# Altium schematic symbol library WCAP-CSGP_0402_X7R.SchLib: 8 symbols
Pins are listed as number, name and electrical type; pins without a type are passive.

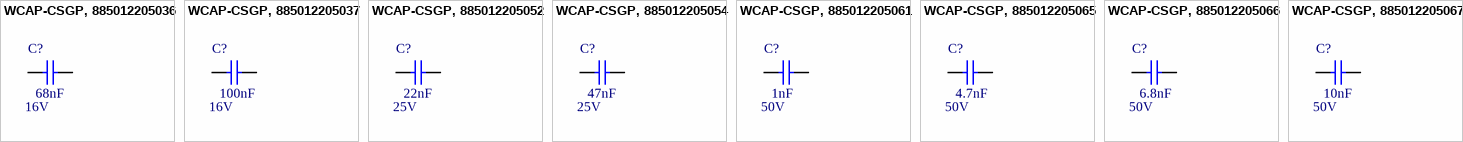
[diagram p0: symbols WCAP-CSGP, 885012205036 to WCAP-CSGP, 885012205067]

## WCAP-CSGP, 885012205036
designator C?, comment 68nF  RatedVoltage: 16V
CAP CER 68nF 16V X7R 0402; Manufacturer: Wurth Elektronik; Manufacturer Part Number: 885012205036; PublishedDate: Aug 2016; ComponentLink1Description: Manufacturer; ComponentLink1URL: http://www.we-online.de; ComponentLink2Description: Datasheet; ComponentLink2URL: http://katalog.we-online.com/pbs/datasheet/885012205036.pdf; Value: 68nF; Size: 0402; CeramicType: X7R
footprint WCAP-CSGP_0402, 1x0.5x0.5
pins: 1, 2

## WCAP-CSGP, 885012205037
designator C?, comment 100nF  RatedVoltage: 16V
CAP CER 100nF 16V X7R 0402; Manufacturer: Wurth Elektronik; Manufacturer Part Number: 885012205037; PublishedDate: Aug 2016; ComponentLink1Description: Manufacturer; ComponentLink1URL: http://www.we-online.de; ComponentLink2Description: Datasheet; ComponentLink2URL: http://katalog.we-online.com/pbs/datasheet/885012205037.pdf; Value: 100nF; Size: 0402; CeramicType: X7R
footprint WCAP-CSGP_0402, 1x0.5x0.5
pins: 1, 2

## WCAP-CSGP, 885012205052
designator C?, comment 22nF  RatedVoltage: 25V
CAP CER 22nF 25V X7R 0402; Manufacturer: Wurth Elektronik; Manufacturer Part Number: 885012205052; PublishedDate: Aug 2016; ComponentLink1Description: Manufacturer; ComponentLink1URL: http://www.we-online.de; ComponentLink2Description: Datasheet; ComponentLink2URL: http://katalog.we-online.com/pbs/datasheet/885012205052.pdf; Value: 22nF; Size: 0402; CeramicType: X7R
footprint WCAP-CSGP_0402, 1x0.5x0.5
pins: 1, 2

## WCAP-CSGP, 885012205054
designator C?, comment 47nF  RatedVoltage: 25V
CAP CER 47nF 25V X7R 0402; Manufacturer: Wurth Elektronik; Manufacturer Part Number: 885012205054; PublishedDate: Aug 2016; ComponentLink1Description: Manufacturer; ComponentLink1URL: http://www.we-online.de; ComponentLink2Description: Datasheet; ComponentLink2URL: http://katalog.we-online.com/pbs/datasheet/885012205054.pdf; Value: 47nF; Size: 0402; CeramicType: X7R
footprint WCAP-CSGP_0402, 1x0.5x0.5
pins: 1, 2

## WCAP-CSGP, 885012205061
designator C?, comment 1nF  RatedVoltage: 50V
CAP CER 1nF 50V X7R 0402; Manufacturer: Wurth Elektronik; Manufacturer Part Number: 885012205061; PublishedDate: Aug 2016; ComponentLink1Description: Manufacturer; ComponentLink1URL: http://www.we-online.de; ComponentLink2Description: Datasheet; ComponentLink2URL: http://katalog.we-online.com/pbs/datasheet/885012205061.pdf; Value: 1nF; Size: 0402; CeramicType: X7R
footprint WCAP-CSGP_0402, 1x0.5x0.5
pins: 1, 2

## WCAP-CSGP, 885012205065
designator C?, comment 4.7nF  RatedVoltage: 50V
CAP CER 4.7nF 50V X7R 0402; Manufacturer: Wurth Elektronik; Manufacturer Part Number: 885012205065; PublishedDate: Aug 2016; ComponentLink1Description: Manufacturer; ComponentLink1URL: http://www.we-online.de; ComponentLink2Description: Datasheet; ComponentLink2URL: http://katalog.we-online.com/pbs/datasheet/885012205065.pdf; Value: 4.7nF; Size: 0402; CeramicType: X7R
footprint WCAP-CSGP_0402, 1x0.5x0.5
pins: 1, 2

## WCAP-CSGP, 885012205066
designator C?, comment 6.8nF  RatedVoltage: 50V
CAP CER 6.8nF 50V X7R 0402; Manufacturer: Wurth Elektronik; Manufacturer Part Number: 885012205066; PublishedDate: Aug 2016; ComponentLink1Description: Manufacturer; ComponentLink1URL: http://www.we-online.de; ComponentLink2Description: Datasheet; ComponentLink2URL: http://katalog.we-online.com/pbs/datasheet/885012205066.pdf; Value: 6.8nF; Size: 0402; CeramicType: X7R
footprint WCAP-CSGP_0402, 1x0.5x0.5
pins: 1, 2

## WCAP-CSGP, 885012205067
designator C?, comment 10nF  RatedVoltage: 50V
CAP CER 10nF 50V X7R 0402; Manufacturer: Wurth Elektronik; Manufacturer Part Number: 885012205067; PublishedDate: Aug 2016; ComponentLink1Description: Manufacturer; ComponentLink1URL: http://www.we-online.de; ComponentLink2Description: Datasheet; ComponentLink2URL: http://katalog.we-online.com/pbs/datasheet/885012205067.pdf; Value: 10nF; Size: 0402; CeramicType: X7R; Supplier 2: JLCPCB; Supplier Part Number 2: C15195
footprint WCAP-CSGP_0402, 1x0.5x0.5
pins: 1, 2